# EAGLE library part TA222 (library switch-e-switch)
PUSHBUTTON SWITCH
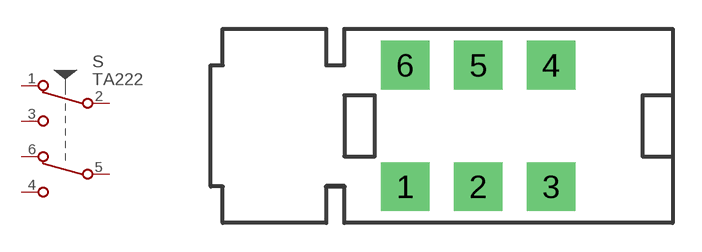
[diagram p1: symbol with the pads of TA222; footprint TA222]

Designator prefix S

## TA222  [TA222]
1  A-NC  pas
2  A-COM  pas
3  A-NO  pas
4  B-NO  pas
5  B-COM  pas
6  B-NC  pas

## Footprint TA222 (pad centres in mm)
Pushbutton Switch TA222 Series
drill 1.27 pad 2.54 square: 1 -3.81,-3.175; 2 0,-3.175; 3 3.81,-3.175; 4 3.81,3.175; 5 0,3.175; 6 -3.81,3.175